# Altium schematic symbol library UZ_D_Encoder.SCHLIB: 95 symbols
Pins are listed as number, name and electrical type; pins without a type are passive.

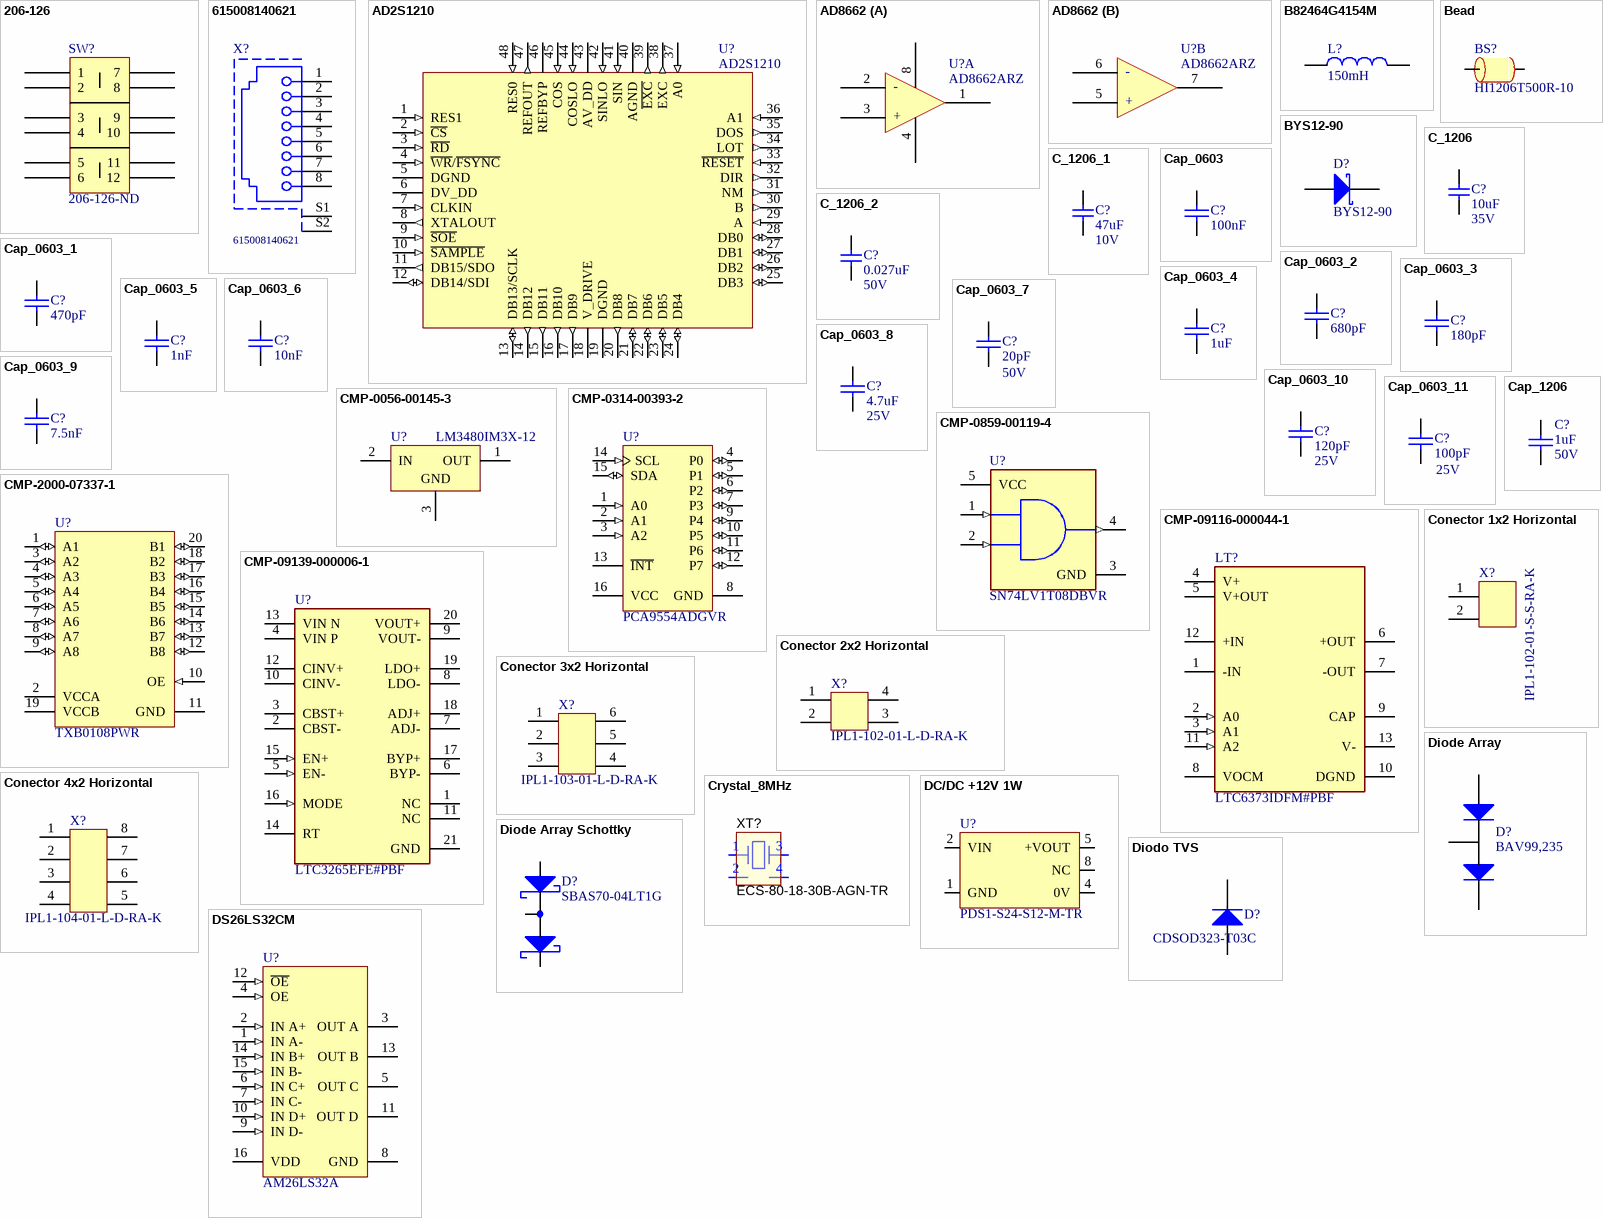
[diagram p0: symbols 206-126 to DS26LS32CM]

## 206-126
designator SW?  Supplier Part Number 1: 206-126-ND  (hidden comment: 206-126)
Switch DIP OFF ON SPDT 6 Raised Slide 0.05A 24VDC PC Pins 2.54mm Thru-Hole Tube; Manufacturer: CTS; Body Material: Plastic; Voltage Rating (DC): 24V; Number of Positions: 6; Current Rating: 50mA; Electrical Life: 10000Cycles; Actuator Type: Slide (Standard); Pitch: 0.1inch; Washable: No; Supplier 1: Digi-Key; Manufacturer Part Number: 206-126; RoHS: Yes; Category: DIP Switches; Pricing 1: 1005=1,10898 (USD); Mount: Through Hole; Contact Plating: Gold; Min Operating Temperature: -55°C; Max Operating Temperature: 85°C; Packaging: Rail/Tube; Termination: PC Pin; Package Quantity: 15; Throw Configuration: SPDT; Series: 206; Max Voltage Rating (DC): 24V; Length: 1.286inch; Terminal Pitch: 2.54mm; Radiation Hardening: No; RoHS Compliant: Yes; ComponentLink1URL: https://datasheet.ciiva.com/8677/206-208-8677008.pdf?src-supplier=Avnet; ComponentLink1Description: https://datasheet.ciiva.com/8677/206-208-8677008.pdf?src-supplier=Avnet; ComponentLink2URL: https://datasheet.ciiva.com/12451/206-208-11732-12451385.pdf?src-supplier=Mouser; ComponentLink2Description: https://datasheet.ciiva.com/12451/206-208-11732-12451385.pdf?src-supplier=Mouser
footprint 206-123
pins: 1, 2, 3, 4, 5, 6, 7, 8, 9, 10, 11, 12

## 615008140621
designator X?
Modular Jack WR-MJ, Tab Up, Shielded, with EMI Panel Finger, Horizontal Entry, THT, 8P8C; Working Voltage: 120VAC; MF: Wurth Elektronik; Compliance: Leadfree/RoHS; Contact Resistance: 20mOhm; Rated Current: 1.5A; Withstanding Voltage: 1000VAC; Port: 1x1; Entrance: Horizontal; Manufacturer URL: http://www.we-online.de; MPN: 615008140621; Mounting Technology: THT; Operating Temperature: -40to85degC; Packaging: Tray; Pin Number: 8P8C; Package Reference: 615008140621; Datasheet URL: https://katalog.we-online.de/em/datasheet/615008140621.pdf; Publisher: WurthElektronik; Supplier Part Number 1: 710-615008140621; Supplier Part Number 2: 732-2742-ND; Supplier 1: Mouser; Supplier 2: Digi-Key
footprint 615008140621 (Modular Jack Horizontal Shielded with EMI Panel Finger 8P8C Tab Up)
pins: 1, 2, 3, 4, 5, 6, 7, 8, S1, S2

## AD2S1210
designator U?
Variable Resolution, 10-Bit to 16-Bit R/D Converter with Reference Oscillator; MPN: AD2S1210WDSTZRL7; MF: Analog Devices; Package: LQFP-48; Value: AD2S1210; Created: 2019_04_20_AGeiger; ComponentLink1Description: Datasheet; ComponentLink1URL: https://www.analog.com/media/en/technical-documentation/data-sheets/AD2S1210.pdf; Supplier 1: Mouser; Supplier Part Number 1: 584-AD2S1210WDSTZR7; Supplier Part Number 2: AD2S1210WDSTZRL7CT-ND; Supplier 2: Digi-Key
footprint LQFP-48_L (QFP, 48-Leads, Body 7x7mm, Pitch 0.5mm, IPC High Density)
footprint LQFP-48_M (QFP, 48-Leads, Body 7x7mm, Pitch 0.5mm, IPC Low Density)
footprint LQFP-48_N (QFP, 48-Leads, Body 7x7mm, Pitch 0.5mm, IPC Medium Density)
pins: 1 RES1 (in), 2 ~{CS} (in), 3 ~{RD} (in), 4 ~{WR}/~{FSYNC} (in), 5 DGND (power), 6 DV_DD (power), 7 CLKIN (in), 8 XTALOUT (out), 9 ~{SOE} (in), 10 ~{SAMPLE} (in), 11 DB15/SDO (out), 12 DB14/SDI (io), 13 DB13/SCLK (io), 14 DB12 (out), 15 DB11 (out), 16 DB10 (out), 17 DB9 (out), 18 V_DRIVE (power), 19 DGND (power), 20 DB8 (out), 21 DB7 (io), 22 DB6 (io), 23 DB5 (io), 24 DB4 (io), 25 DB3 (io), 26 DB2 (io), 27 DB1 (io), 28 DB0 (io), 29 A (in), 30 B (out), 31 NM (out), 32 DIR (out), 33 ~{RESET} (in), 34 LOT (out), 35 DOS (out), 36 A1 (in), 37 A0 (in), 38 EXC (out), 39 ~{EXC} (out), 40 AGND (power), 41 SIN (in), 42 SINLO (in), 43 AV_DD (power), 44 COSLO (in), 45 COS (in), 46 REFBYP, 47 REFOUT (out), 48 RES0 (in)

## AD8662
designator U?, comment AD8662ARZ
IC OPAMP GP 2 CIRCUIT 14SOIC; MF: Analog Devices; MPN: AD8662ARZ; Supplier Part Number 2: AD8662ARZ-ND; Package: SOIC-8; Supplier 1: Mouser; Supplier 2: Digi-Key; Supplier Part Number 1: 584-AD8662ARZ
footprint SOIC8_N (SOIC, 8-Leads, Body 4.9x3.9mm, Pitch 1.27mm, IPC Medium Density)
part A pins: 1 out a, 2 -in a, 3 +in a, 4 v+, 8 v-
part B pins: 5 +in b, 6 -in b, 7 out b
part A text: -; +
part B text: -; +

## B82464G4154M
designator L?, comment 150mH
SMT power Inductor, 150uH, 320m DRC; MPN: B82464G4154M; MF: EPCOS / TDK; Rated Current: 0.85 A; Supplier 1: Mouser; Supplier Part Number 1: 871-B82464G4154M; Value: 150mH; DCR: 320m
footprint SMT_inductor_1050_Performance (SMD Shielded Power Inductor, 2-leads, body 10.3x10.5mm)
pins: 1, 2

## Bead
designator BS?, comment HI1206T500R-10
Ferrite bead 6A; MF: Laird; Supplier Part Number 2: 240-2412-1-ND; MFN: HI1206T500R-10; Supplier 2: Digi-Key; Supplier 1: Mouser; Supplier Part Number 1: 875-HI1206T500R-10; Package: 1206
footprint RES_1206 (RES 1206)
pins: 1, 2

## BYS12-90
designator D?
Schottky Diode; MPN: BYS12-90-E3/TR3; MF: Vishay; Forward Voltage: 750mV; Reverse Voltage: 90V; Rated Current: 1.5A; Package: DO-214AC; Supplier 1: Farnell; Supplier 2: Mouser; Supplier 3: Digi-Key; Supplier Part Number 1: 2889144; Supplier Part Number 2: 625-BYS12-90-E3/TR3; Supplier Part Number 3: BYS12-90-E3/GICT-ND
footprint DIOM4227X23N (Molded Diode, 2-Leads, Body 4,25x2,67mm, IPC Medium Density)
pins: 1 K, 2 A

## C_1206
designator C?, comment 10uF  Voltage: 35V
Capacitor 1206; MPN: GRM319R6YA106KA12D; Tolerance: 10%; MF: Murata Electronics; Dielectric: X5R; Package: 1206; Value: 10uF; Created: 2018_06_25_AGeiger; Supplier 1: Mouser; Supplier Part Number 1: 81-GRM319R6YA106KA2D
footprint C_1206
pins: 1, 2

## C_1206_1
designator C?, comment 47uF  Voltage: 10V
Capacitor 1206; MPN: GRM31CR61A476ME15L; Tolerance: 10%; MF: Murata Electronics; Dielectric: X5R; Package: 1206; Value: 47uF; Created: 2018_06_25_AGeiger; Supplier 1: Mouser; Supplier Part Number 1: 81-GRM31CR61A476ME5L
footprint C_1206
pins: 1, 2

## C_1206_2
designator C?, comment 0.027uF  Voltage: 50V
Capacitor 1206; MPN: GRM3195C1H273JA01D; Tolerance: 5%; MF: Murata; Dielectric: C0G; Package: 1206; Value: 0.027uF; Created: 2018_06_25_AGeiger; Supplier 1: Mouser; Supplier Part Number 1: 81-GRM315C1H273JA01D
footprint C_1206
pins: 1, 2

## Cap_0603
designator C?, comment 100nF
MPN: 885012206071; MF: Würth; Voltage: 25V; Value: 100nF; Supplier 1: Mouser; Supplier 2: *; Supplier Part Number 1: 710-885012206071; Supplier Part Number 2: *
footprint CAPC1608X07N (Chip Capacitor, 2-Leads, Body 1,60x0,80mm, IPC Medium Density)
pins: 1, 2

## Cap_0603_1
designator C?, comment 470pF
MPN: VJ0603A471GXJPW1BC; MF: Vishay; Voltage: 16V; Value: 470pF; Supplier 1: Mouser; Supplier 2: *; Supplier Part Number 1: 77-VJ0603A471GXJPBC; Supplier Part Number 2: *
footprint CAPC1608X07N (Chip Capacitor, 2-Leads, Body 1,60x0,80mm, IPC Medium Density)
pins: 1, 2

## Cap_0603_2
designator C?, comment 680pF
MPN: VJ0603A681GXJCW1BC; MF: Vishay; Voltage: 16V; Value: 680pF; Supplier 1: Mouser; Supplier 2: *; Supplier Part Number 1: 77-VJ0603A681GXJCBC; Supplier Part Number 2: *
footprint CAPC1608X07N (Chip Capacitor, 2-Leads, Body 1,60x0,80mm, IPC Medium Density)
pins: 1, 2

## Cap_0603_3
designator C?, comment 180pF
MPN: VJ0603A681GXJCW1BC; MF: Vishay; Voltage: 16V; Value: 180pF; Supplier 1: Mouser; Supplier 2: *; Supplier Part Number 1: 77-VJ0603A681GXJCBC; Supplier Part Number 2: *
footprint CAPC1608X07N (Chip Capacitor, 2-Leads, Body 1,60x0,80mm, IPC Medium Density)
pins: 1, 2

## Cap_0603_4
designator C?, comment 1uF
MPN: C0603C105K3R; Voltage: 25V; Value: 1uF
footprint CAPC1608X07N (Chip Capacitor, 2-Leads, Body 1,60x0,80mm, IPC Medium Density)
pins: 1, 2

## Cap_0603_5
designator C?, comment 1nF
Voltage: 16V; Value: 1nF; MF: *; MPN: *; Supplier 1: *; Supplier 2: *; Supplier Part Number 1: *; Supplier Part Number 2: *
footprint CAPC1608X07N (Chip Capacitor, 2-Leads, Body 1,60x0,80mm, IPC Medium Density)
pins: 1, 2

## Cap_0603_6
designator C?, comment 10nF
MPN: 885012206065; MF: Würth; Voltage: 25V; Value: 10nF; Supplier 1: Mouser; Supplier 2: *; Supplier Part Number 1: 710-885012206065; Supplier Part Number 2: *
footprint CAPC1608X07N (Chip Capacitor, 2-Leads, Body 1,60x0,80mm, IPC Medium Density)
pins: 1, 2

## Cap_0603_7
designator C?, comment 20pF  Voltage: 50V
Value: 20pF; MF: *; MPN: *; Supplier 1: *; Supplier 2: *; Supplier Part Number 1: *; Supplier Part Number 2: *
footprint CAPC1608X07N (Chip Capacitor, 2-Leads, Body 1,60x0,80mm, IPC Medium Density)
pins: 1, 2

## Cap_0603_8
designator C?, comment 4.7uF  Voltage: 25V
Value: 4.7uF; MF: *; MPN: *; Supplier 1: *; Supplier 2: *; Supplier Part Number 1: *; Supplier Part Number 2: *
footprint CAPC1608X07N (Chip Capacitor, 2-Leads, Body 1,60x0,80mm, IPC Medium Density)
pins: 1, 2

## Cap_0603_9
designator C?, comment 7.5nF
MPN: C0603C752J3GACTU; MF: KEMET; Voltage: 25V; Value: 7.5nF; Supplier 1: Mouser; Supplier 2: *; Supplier Part Number 1: 80-C0603C752J3GACTU; Supplier Part Number 2: *
footprint CAPC1608X07N (Chip Capacitor, 2-Leads, Body 1,60x0,80mm, IPC Medium Density)
pins: 1, 2

## Cap_0603_10
designator C?, comment 120pF  Voltage: 25V
Value: 120pF; MF: *; MPN: *; Supplier 1: *; Supplier 2: *; Supplier Part Number 1: *; Supplier Part Number 2: *
footprint CAPC1608X07N (Chip Capacitor, 2-Leads, Body 1,60x0,80mm, IPC Medium Density)
pins: 1, 2

## Cap_0603_11
designator C?, comment 100pF  Voltage: 25V
Value: 100pF; MF: *; MPN: *; Supplier 1: *; Supplier 2: *; Supplier Part Number 1: *; Supplier Part Number 2: *
footprint CAPC1608X07N (Chip Capacitor, 2-Leads, Body 1,60x0,80mm, IPC Medium Density)
pins: 1, 2

## Cap_1206
designator C?, comment 1uF  Voltage: 50V
Capacitor; Digikey Part-Number: *; Value: 1uF; Manufacturer Part-Number: *
simulation model CAP (Capacitor)
signal-integrity model Cap
footprint RES_1206 (RES 1206)
pins: 1, 2

## CMP-0056-00145-3
designator U?, comment LM3480IM3X-12
100 mA, Quasi Low-Dropout Linear Voltage Regulator, 3-pin SOT-23; Manufacturer: Texas Instruments; CompType: Analog IC; PowerWise: N; PackageTopMarking: L0C*XTT; PackageReference: DBZ0003A; PinCount: 3; RoHS: N; ComponentLink1Description: Datasheet URL; PackageDescription: Molded SOT-23, .115 x .051 x .037in Body, 3 Lead, .075 in Pitch; ComponentLink1URL: http://www.ti.com/general/docs/lit/getliterature.tsp?genericPartNumber=LM3480&fileType=pdf; Manufacturer 1: Texas Instruments; Manufacturer Part Number 1: LM3480IM3X-12
footprint DBZ0003A_L (SOT23, 3-Leads, Body 3.04x1.4mm, Pitch 0.95mm, IPC High Density)
footprint DBZ0003A_N (SOT23, 3-Leads, Body 3.04x1.4mm, Pitch 0.95mm, IPC Medium Density)
footprint DBZ0003A_M (SOT23, 3-Leads, Body 3.04x1.4mm, Pitch 0.95mm, IPC Low Density)
pins: 1 OUT (power), 2 IN (power), 3 GND (power)

## CMP-0314-00393-2
designator U?, comment PCA9554ADGVR
Remote 8-Bit I2C and SMBus I/O Expander with Interrupt Output and Configuration Registers, 8 Outputs, 2.3 to 5.5 V, -40 to 85 degC, 16-pin TVSOP (DGV), Green (RoHS & no Sb/Br); Manufacturer: Texas Instruments; No. of Outputs: 8; Push-Pull I/O Type: Yes; VCC(Max)(V): 5.5; Max Frequency(kHz): 400; fSCLK(Max)(MHz): 0.1, 0.4; VCC(Min)(V): 2.3; I2C Address: 0111 xxx; SubFamily: I2C IO Expander; PackageVersion: revE, Aug-2000; Code_JEDEC: MO-194; ComponentLink1Description: Datasheet; PackageDescription: 16-Pin Thin Shrink Small Outline Package 0.4 mm Pitch; ComponentLink1URL: http://www.ti.com/general/docs/lit/getliterature.tsp?genericPartNumber=PCA9554A&fileType=pdf; Configuration Registers: Yes; PartNumber: PCA9554ADGVR; ComponentLink2Description: Package Specification; PackageReference: DGV0016A; Mounting Technology: Surface Mount; Vcc range(V): 2.3 to 5.5; DatasheetVersion: SCPS127D; # of I/Os: 8; 5V Tolerant I/O: Yes; ComponentLink2URL: http://www.ti.com/litv/pdf/msso002e; Interrupt Output: Yes; Eco-Plan: Green (RoHS & no Sb/Br); Manufacturer 1: Texas Instruments; Manufacturer Part Number 1: PCA9554ADGVR
footprint DGV0016A_L (SOP, 16-Leads, Body 4.5x3.7mm, Pitch 0.4mm, IPC High Density)
footprint DGV0016A_N (SOP, 16-Leads, Body 4.5x3.7mm, Pitch 0.4mm, IPC Medium Density)
footprint DGV0016A_M (SOP, 16-Leads, Body 4.5x3.7mm, Pitch 0.4mm, IPC Low Density)
pins: 1 A0 (in) "Address input. Connect directly to VCC or ground.", 2 A1 (in) "Address input. Connect directly to VCC or ground.", 3 A2 (in) "Address input. Connect directly to VCC or ground.", 4 P0 (io) "P-port input/output. Push-pull design structure.", 5 P1 (io) "P-port input/output. Push-pull design structure.", 6 P2 (io) "P-port input/output. Push-pull design structure.", 7 P3 (io) "P-port input/output. Push-pull design structure.", 8 GND (power) "Ground", 9 P4 (io) "P-port input/output. Push-pull design structure.", 10 P5 (io) "P-port input/output. Push-pull design structure.", 11 P6 (io) "P-port input/output. Push-pull design structure.", 12 P7 (io) "P-port input/output. Push-pull design structure.", 13 ~{INT} (oc) "Interrupt output. Connect to VCC through a pullup resistor.", 14 SCL (in) "Serial clock bus. Connect to VCC through a pullup resistor.", 15 SDA (io) "Serial data bus. Connect to VCC through a pullup resistor.", 16 VCC (power) "Supply voltage"

## CMP-0859-00119-4
designator U?, comment SN74LV1T08DBVR
IC GATE AND 1CH 2-INP SOT23-5; Manufacturer 1: Texas Instruments; Quiescent Current: 1uA; Logic Function: AND GATE; Number of Inputs: 2; Number of Circuits: 1; Min Supply Voltage: 1.6V; High Level Output Current: -8mA; Max Supply Voltage: 5.5V; Low Level Output Current: 8mA; Propagation Delay: 7ns; Packaging: Tape and Reel; Number of Pins: 5; Min Operating Temperature: -40°C; Radiation Hardening: No; Package Quantity: 3000; Weight: 0.000557oz; Height: 1.45mm; RoHS Compliant: Yes; Length: 3.05mm; Number of Bits: 1; Width: 1.75mm; Number of Gates: 1; Max Operating Temperature: 125°C; Mount: Surface Mount; Case/Package: SOT-23-5; Lead Free: Lead Free; Number of Input Lines: 2; Manufacturer Part Number 1: SN74LV1T08DBVR
footprint FP-DBV0005A-IPC_B
footprint FP-DBV0005A-IPC_A
footprint FP-DBV0005A-IPC_C
footprint FP-DBV0005A-MFG
pins: 1 A (in), 2 B (in), 3 GND (power), 4 Y (out), 5 VCC (power)

## CMP-2000-07337-1
designator U?, comment TXB0108PWR
TXB0108 8-Bit Bidirectional Voltage-Level Translator with Auto-Direction Sensing and / +/- 15-kV ESD Protection, 1.2 to 3.6 V, -40 to 85 degC, 20-Pin TSSOP (PW), Green (RoHS & no Sb/Br), Tape and Reel; Manufacturer: Texas Instruments; Propagation Delay (Max): 4ns; Logic Function: Translator,Bidirectional; Input Type: Logic; Package Version: 4040064-5/G, 02/2011; Voltage - Supply: 1.2V~3.6V,1.65V~5.5V; Data Rate: 100Mbps; Other Names: 296-21527-6; Number of Channels: 8; Differential - Input: Output:No/No; Number of Outputs/Channel: 1; Product Training Modules: VoltageLevelTranslation; Dynamic Catalog: TXBSeries; Package Reference: PW20; Package Description: 20-Pin Small Outline Package Integrated Circuit, Body 6.5 x 4.4 mm, Pitch 0.65 mm; Category: IntegratedCircuits(ICs); Datasheet URL: http://www.ti.com/general/docs/lit/getliterature.tsp?genericPartNumber=TXB0108&fileType=pdf; Package / Case: 20-TSSOP(0.173",4.40mmWidth); Family: Logic-Translators; Standard Package: 1; Series: -; Manufacturer URL: http://www.ti.com/; Number of Bits: 8; Package URL: http://www.ti.com/litv/pdf/mpds362; Output Type: Logic; Datasheet Version: Rev. F, 12/2014; Packaging: Digi-Reel®; Operating Temperature: -40°C~85°C; Supplier Device Package: 20-TSSOP; Mounting Technology: SurfaceMount; Manufacturer 1: Texas Instruments; Manufacturer Part Number 1: TXB0108PWR
footprint PW0020A_L (SOP, 20-Leads, Body 6.6x4.5mm, Pitch 0.65mm, IPC High Density)
footprint PW0020A_M (SOP, 20-Leads, Body 6.6x4.5mm, Pitch 0.65mm, IPC Low Density)
footprint PW0020A_N (SOP, 20-Leads, Body 6.6x4.5mm, Pitch 0.65mm, IPC Medium Density)
pins: 1 A1 (io) "Input/output 1. Referenced to VCCA.", 2 VCCA (power) "A-port supply voltage. 1.1 V =< VCCA =< 3.6 V, VCCA =< VCCB.", 3 A2 (io) "Input/output 2. Referenced to VCCA.", 4 A3 (io) "Input/output 3. Referenced to VCCA.", 5 A4 (io) "Input/output 4. Referenced to VCCA.", 6 A5 (io) "Input/output 5. Referenced to VCCA.", 7 A6 (io) "Input/output 6. Referenced to VCCA.", 8 A7 (io) "Input/output 7. Referenced to VCCA.", 9 A8 (io) "Input/output 8. Referenced to VCCA.", 10 OE (in) "Output enable. Pull OE low to place all outputs in 3-state mode. Referenced to VCCA.", 11 GND (power) "Ground", 12 B8 (io) "Input/output 8. Referenced to VCCB.", 13 B7 (io) "Input/output 7. Referenced to VCCB.", 14 B6 (io) "Input/output 6. Referenced to VCCB.", 15 B5 (io) "Input/output 5. Referenced to VCCB.", 16 B4 (io) "Input/output 4. Referenced to VCCB.", 17 B3 (io) "Input/output 3. Referenced to VCCB.", 18 B2 (io) "Input/output 2. Referenced to VCCB.", 19 VCCB (power) "B-port supply voltage. 1.65 V =< VCCB =< 5.5 V.", 20 B1 (io) "Input/output 1. Referenced to VCCB."

## CMP-09116-000044-1
designator LT?, comment LTC6373IDFM#PBF
INST Amp Single ±18V 12-Pin DFN EP Tube; Manufacturer 1: Analog Devices; RoHS Compliant: Yes; Manufacturer Part Number 1: LTC6373IDFM#PBF
footprint FP-LTC6373IDFM#PBF-MFG
footprint FP-LTC6373IDFM#PBF-IPC_C
footprint FP-LTC6373IDFM#PBF-IPC_B
footprint FP-LTC6373IDFM#PBF-IPC_A
pins: 1 -IN (hiz), 2 A0 (in), 3 A1 (in), 4 V+ (power), 5 V+OUT (power), 6 +OUT, 7 -OUT, 8 VOCM, 9 CAP, 10 DGND (power), 11 A2 (in), 12 +IN (hiz), 13 V- (power)

## CMP-09139-000006-1
designator U?, comment LTC3265EFE#PBF
IC REG CHARG PUMP INV DL 20TSSOP; Manufacturer: Analog Devices Inc; Manufacturer 1: Analog Devices / Linear Technology; Switching Topology: Buck-Boost; Number Of Outputs: 2; Max Junction Temp: +150°C; Output Type: AdjustableProgrammable; Min Supply Voltage: 4.5V; Switching Frequency: 50-500kHz; Max Supply Voltage: 32V; Standoff Height: 0.05mm; Output Voltage: 1.2-32V; Nominal Supply Current: 3-3000uA; Ipc Land Pattern Name: SOP65P640X120-20; Mouser Description: Charge Pump INV/STPUP Automotive 20-Pin TSSOP EP Tube; Manufacturer Part Number: LTC3265EFE#PBF; ComponentLink2Description: Datasheet; Device Class L2: Power Management ICs; Octopart: https://octopart.com/ltc3265efe%23pbf-analog+devices-88944569; Height: 1.2mm; RoHS: TRUE; Category: IC; Digikey Description: IC REG CHARG PUMP INV DL 20TSSOP; ComponentLink2URL: https://www.analog.com/media/en/technical-documentation/data-sheets/3265fa.pdf; Package: FE-20-05-08-1663; Device Class L1: Integrated Circuits (ICs); Temperature Range High: +125°C; Temperature: -40°C to +125°C; Device Class L3: Voltage Regulators - Switching; Automotive: No; Lead Free: Yes; Temperature Range Low: -40°C; Manufacturer Part Number 1: LTC3265EFE#PBF
footprint FP-FE-20-05-08-1663-MFG
footprint FP-FE-20-05-08-1663-IPC_C
footprint FP-FE-20-05-08-1663-IPC_B
footprint FP-FE-20-05-08-1663-IPC_A
pins: 1 NC, 2 CBST-, 3 CBST+, 4 VIN P (power), 5 EN- (in), 6 BYP-, 7 ADJ-, 8 LDO-, 9 VOUT- (power), 10 CINV-, 11 NC, 12 CINV+, 13 VIN N (power), 14 RT, 15 EN+ (in), 16 MODE (in), 17 BYP+, 18 ADJ+, 19 LDO+, 20 VOUT+ (power), 21 GND (power)

## Conector 1x2 Horizontal
designator X?, comment IPL1-102-01-S-S-RA-K
CONN HEADER R/A 2POS 2.54MM Through Hole; MF: Samtec; Supplier Part Number 2: SAM12667-ND; MPN: IPL1-102-01-S-S-RA-K; Supplier Part Number 1: 200-IPL110201SSRAK; Supplier 1: Mouser; Supplier 2: Digi-Key
footprint Conector 1x2 TH Horizontal (Pitch 2.54mm P/N: IPL1-102-01-S-S-RA-K)
pins: 1, 2

## Conector 2x2 Horizontal
designator X?, comment IPL1-102-01-L-D-RA-K
CONN HEADER R/A 4 POS 2.54MM Through Hole; MF: Samtec; Supplier Part Number 2: SAM8823-ND; MPN: IPL1-102-01-L-D-RA-K; Supplier Part Number 1: 200-IPL110201LDRAK; Supplier 1: Mouser; Supplier 2: Digi-Key
footprint Conector 2x2 TH Horizontal (Pitch 2.54mm P/N: IPL1-102-01-L-D-RA-K)
pins: 1, 2, 3, 4

## Conector 3x2 Horizontal
designator X?, comment IPL1-103-01-L-D-RA-K
CONN HEADER R/A 6 POS 2.54MM Through Hole; MF: Samtec; Supplier Part Number 2: SAM9096-ND; MPN: IPL1-103-01-L-D-RA-K; Supplier Part Number 1: 200-IPL110301LDRAK; Supplier 1: Mouser; Supplier 2: Digi-Key
footprint Conector 3x2 TH Horizontal (Pitch 2.54mm P/N: IPL1-103-01-L-D-RA-K)
pins: 1, 2, 3, 4, 5, 6

## Conector 4x2 Horizontal
designator X?, comment IPL1-104-01-L-D-RA-K
CONN HEADER R/A 8POS 2.54MM Through Hole; MF: Samtec; Supplier Part Number 2: SAM9596-ND; MPN: IPL1-104-01-L-D-RA-K; Supplier Part Number 1: 200-IPL110401LDRAK; Supplier 1: Mouser; Supplier 2: Digi-Key
footprint Conector 4x2 TH Horizontal (Pitch 2.54mm P/N: IPL1-104-01-L-D-RA-K)
pins: 1, 2, 3, 4, 5, 6, 7, 8

## Crystal_8MHz
designator XT?, comment ECS-80-18-30B-AGN-TR
CRYSTAL 8MHZ 18PF SMD; MF: ECS; Supplier Part Number 2: XC2709CT-ND; MPN: ECS-80-18-30B-AGN-TR; Supplier Part Number 1: 520-80-18-30B-AGNT; Supplier 1: Mouser; Package: 4-SMD; Supplier 2: Digi-Key
footprint CRYSTALOSC
pins: 1 IN, 2 GND, 3 OUT, 4 GND

## DC/DC +12V 1W
designator U?, comment PDS1-S24-S12-M-TR
DC DC CONVERTER 12V 1W; MF: CUI; MPN: PDS1-S24-S12-M-TR; Supplier Part Number 2: 102-3406-1-ND; Package: 5-SMD; Supplier 1: Mouser; Supplier 2: Digi-Key; Supplier Part Number 1: 490-PDS1S24S12MTR
footprint DC/DC 24V-->12V 1W Aislado (CUI Inc. P/N: PDS1-S24-S12-M-TR)
pins: 1 GND, 2 VIN, 4 0V, 5 +VOUT, 8 NC, 15 NC hidden, 16 NC hidden, 17 NC hidden, 26 NC hidden, 27 NC hidden

## Diode Array
designator D?, comment BAV99,235
DIODE ARRAY GP 100V 215MA SOT23; MF: Nexperia; Supplier Part Number 2: 1727-4311-1-ND; MPN: BAV99,235; Supplier 1: Mouser; Supplier 2: Digi-Key; Package: SOT-23-3; Supplier Part Number 1: 771-BAV99235
footprint SOT-23 (SOT23, 3-Leads, Body 2.9x1.3mm, Pitch 0.95mm, Lead Span 2.5mm, IPC Medium Density)
pins: 1, 2, 3

## Diode Array Schottky
designator D?, comment SBAS70-04LT1G
DIODE SCHOTTKY 70V DUAL SOT23; MF: ON Semiconductor; Supplier Part Number 2: SBAS70-04LT1GOSCT-ND; MPN: SBAS70-04LT1G; Supplier Part Number 1: 863-SBAS70-04LT1G; Package: SOT-23-3; Supplier 1: Mouser; Supplier 2: Digi-Key
footprint SOT-23 (SOT23, 3-Leads, Body 2.9x1.3mm, Pitch 0.95mm, Lead Span 2.5mm, IPC Medium Density)
pins: 1, 2, 3

## Diodo TVS
designator D?, comment CDSOD323-T03C
TVS DIODE 3.3V 19V SOD323; MF: Bourns; Supplier Part Number 2: CDSOD323-T03CCT-ND; MPN: CDSOD323-T03C; Supplier Part Number 1: 652-CDSOD323-T03C; Package: SOD-323-2; Supplier 2: Digi-Key; Supplier 1: Mouser
footprint SOD-323
pins: 1 K, 2 A

## DS26LS32CM
designator U?, comment AM26LS32A
Quad Differential Line Receiver, 16-pin Narrow SOIC; PartNumber: AM26LS32AIDR; Manufacturer: TI; CompType: Interface IC; Published: 4-Dec-2008; Supplier 1: Mouser; Supplier Part Number 1: 595-AM26LS32AIDR; PinCount: 16; ComponentLink3Description: M16A Package Page; ComponentLink3URL: http://www.national.com/packaging/folders/m16a.html
footprint M16A_N (SOIC, 16-Leads, Body 9.9x3.9mm, Pitch 1.27mm, IPC Medium Density)
footprint M16A_L (SOIC, 16-Leads, Body 9.9x3.9mm, Pitch 1.27mm, IPC High Density)
footprint M16A_M (SOIC, 16-Leads, Body 9.9x3.9mm, Pitch 1.27mm, IPC Low Density)
pins: 1 IN A- (in), 2 IN A+ (in), 3 OUT A (hiz), 4 OE (in), 5 OUT C (hiz), 6 IN C+ (in), 7 IN C- (in), 8 GND (power), 9 IN D- (in), 10 IN D+ (in), 11 OUT D (hiz), 12 ~{OE} (in), 13 OUT B (hiz), 14 IN B+ (in), 15 IN B- (in), 16 VDD (power)

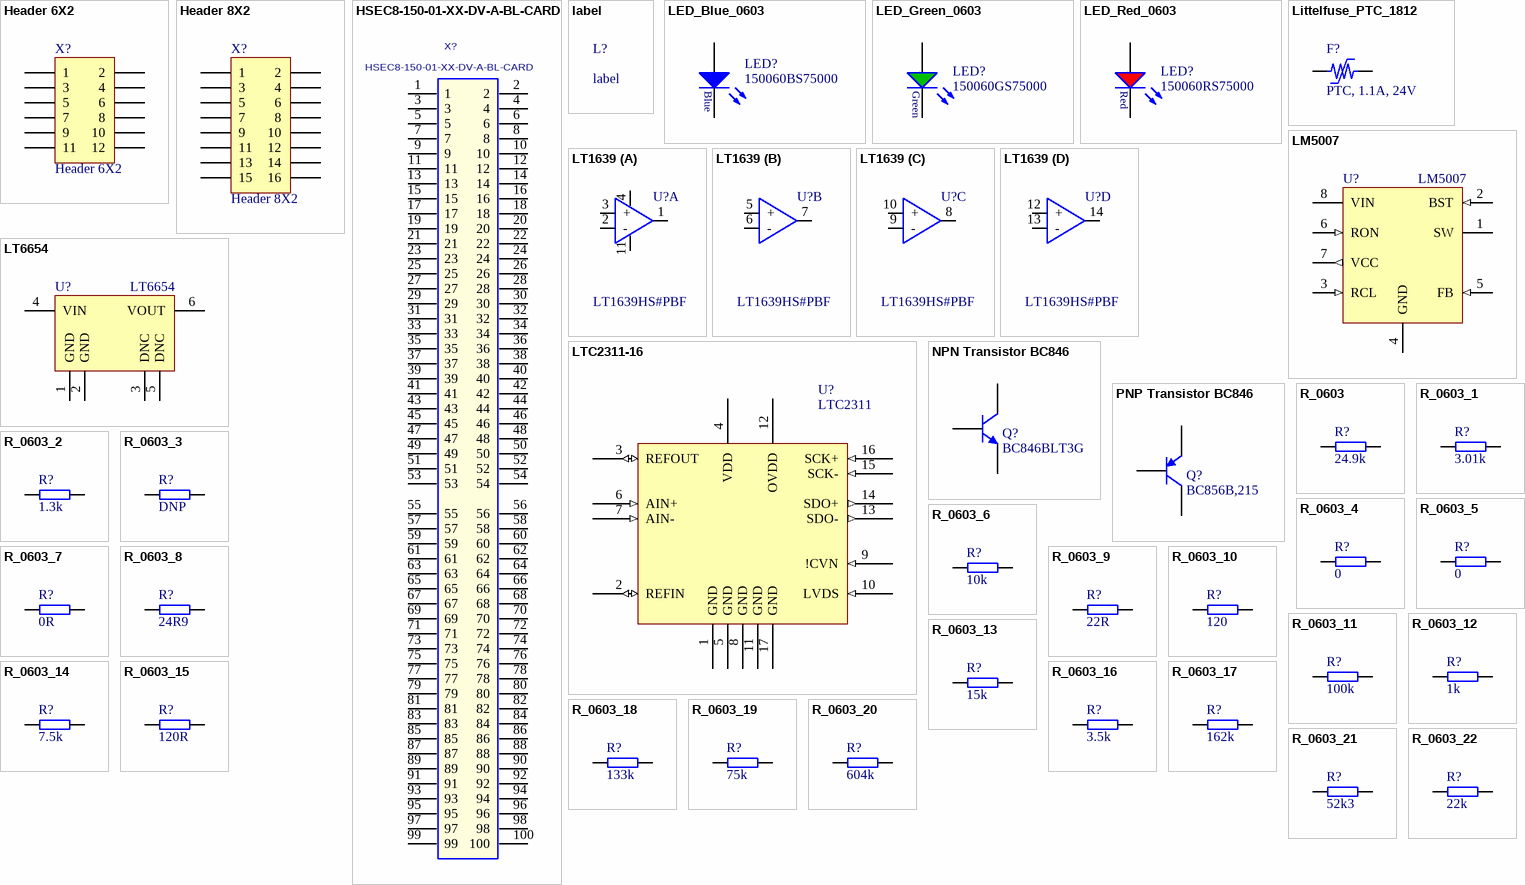
[diagram p1: symbols Header 6X2 to R_0603_22]

## Header 6X2
designator X?
Header, 6-Pin, Dual row; LatestRevisionDate: 17-Jul-2002; LatestRevisionNote: Re-released for DXP Platform.; Publisher: Altium Limited
footprint HDR2X6 (Connector; Header; 6x2 Position)
signal-integrity model Connector
pins: 1, 2, 3, 4, 5, 6, 7, 8, 9, 10, 11, 12

## Header 8X2
designator X?
Header, 8-Pin, Dual row; LatestRevisionDate: 17-Jul-2002; LatestRevisionNote: Re-released for DXP Platform.; Publisher: Altium Limited
footprint HDR2X8 (Connector; Header; 8x2 Position)
signal-integrity model Connector
pins: 1, 2, 3, 4, 5, 6, 7, 8, 9, 10, 11, 12, 13, 14, 15, 16

## HSEC8-150-01-XX-DV-A-BL-CARD
designator X?  (no BOM)
Mating Card Layout for HSEC8-150-01-XX-DV-A-BL; Manufacturer: SAMTEC; Created: 2018_04_23_AGeiger; Value: HSEC8-150-01-XX-DV-A-BL-CARD
footprint HSEC8-150-01-XX-DV-A-BL-CARD
pins: 1, 2, 3, 4, 5, 6, 7, 8, 9, 10, 11, 12, 13, 14, 15, 16, 17, 18, 19, 20, 21, 22, 23, 24, 25, 26, 27, 28, 29, 30, 31, 32, 33, 34, 35, 36, 37, 38, 39, 40, 41, 42, 43, 44, 45, 46, 47, 48, 49, 50, 51, 52, 53, 54, 55, 56, 57, 58, 59, 60, 61, 62, 63, 64, 65, 66, 67, 68, 69, 70, 71, 72, 73, 74, 75, 76, 77, 78, 79, 80, 81, 82, 83, 84, 85, 86, 87, 88, 89, 90, 91, 92, 93, 94, 95, 96, 97, 98, 99, 100

## label
designator L?
footprint revisioninfo

## LED_Blue_0603
designator LED?, comment 150060BS75000
WL-SMCW SMD Mono-color Chip LED Waterclear, size 0603, Blue, 3.2 V, 140°; Forward Voltage: 3.2 V; Luminous Intensity: 145 mcd; Peak Wavelength: 465 nm; Dominant Wavelength: 470 nm; MF: Wuerth Elektronik; Published Date: Sep. 2017; ComponentLink1Description: Manufacturer; ComponentLink1URL: http://www.we-online.de; ComponentLink2Description: Datasheet; ComponentLink2URL: http://katalog.we-online.com/led/datasheet/150060BS75000.pdf; MPN: 150060BS75000; Size: 0603; Viewing Angle: 140°; Emitting Color: Blue; Value: 150060BS75000; Package: 0603; Created: 2018_09_06_AGeiger; Supplier 1: Farnell; Supplier Part Number 1: 2322069; Supplier 2: Mouser; Supplier Part Number 2: 710-150060BS75000; Supplier 3: Digi-Key; Supplier Part Number 3: 732-4966-1-ND
footprint WL-SMCW_0603 (SMD Mono-color Chip LED, body 1.6x0.8mm)
pins: 1 K, 2 A

## LED_Green_0603
designator LED?, comment 150060GS75000
WL-SMCW SMD Mono-color Chip LED Waterclear, size 0603, Green, 3.2 V, 140°; Forward Voltage: 3.2 V; Luminous Intensity: 430 mcd; Peak Wavelength: 515 nm; Dominant Wavelength: 520 nm; MF: Wuerth Elektronik; Published Date: Sep. 2017; ComponentLink1Description: Manufacturer; ComponentLink1URL: http://www.we-online.de; ComponentLink2Description: Datasheet; ComponentLink2URL: http://katalog.we-online.com/led/datasheet/150060GS75000.pdf; MPN: 150060GS75000; Size: 0603; Viewing Angle: 140°; Emitting Color: Green; Value: 150060GS75000; Package: 0603; Created: 2018_09_06_AGeiger; Supplier 1: Farnell; Supplier Part Number 1: 2322070; Supplier 2: Mouser; Supplier Part Number 2: 710-150060GS75000; Supplier 3: Digi-Key; Supplier Part Number 3: 732-4971-1-ND
footprint WL-SMCW_0603 (SMD Mono-color Chip LED, body 1.6x0.8mm)
pins: 1 K, 2 A

## LED_Red_0603
designator LED?, comment 150060RS75000
WL-SMCW SMD Mono-color Chip LED Waterclear, size 0603, Red, 2 V, 140°; Forward Voltage: 2 V; Luminous Intensity: 250 mcd; Peak Wavelength: 630 nm; Dominant Wavelength: 625 nm; MF: Wuerth Elektronik; Published Date: Sep. 2017; ComponentLink1Description: Manufacturer; ComponentLink1URL: http://www.we-online.de; ComponentLink2Description: Datasheet; ComponentLink2URL: http://katalog.we-online.com/led/datasheet/150060RS75000.pdf; MPN: 150060RS75000; Size: 0603; Viewing Angle: 140°; Emitting Color: Red; Value: 150060RS75000; Package: 0603; Created: 2018_09_06_AGeiger; Supplier 1: Farnell; Supplier Part Number 1: 2322071; Supplier 2: Mouser; Supplier Part Number 2: 710-150060RS75000; Supplier 3: Digi-Key; Supplier Part Number 3: 732-4978-1-ND
footprint WL-SMCW_0603 (SMD Mono-color Chip LED, body 1.6x0.8mm)
pins: 1 K, 2 A

## Littelfuse_PTC_1812
designator F?, comment PTC, 1.1A, 24V
Resettable PTC Polyfuse SMD, 1812, automotive; MPN: miniASMDC110F/24; MF: Littelfuse; Trip Current: 2.2A; Resistance: 0.18Ohm; Created: 2019_02_10_AGeiger; Package: 1812; ComponentLink1URL: https://www.littelfuse.com/~/media/electronics/datasheets/resettable_ptcs/littelfuse_ptc_surface_mount_catalog_datasheet.pdf.pdf; ComponentLink1Description: Datasheet; Value: PTC, 1.1A, 24V; Voltage: 24V; Hold Current: 1.1A
footprint 1812_PTC_Polyfuse_Littelfuse (Chip Fuse, 2-Leads, Body 4.6x3.24mm)
pins: 1, 2

## LM5007
designator U?
Buck Converter, 9-75Vin, 2.5-73Vout; MPN: LM5007MM/NOPB; MF: Texas Instruments; Supplier 1: Farnell; Supplier 2: Mouser; Supplier 3: Digi-Key; Supplier Part Number 1: 9779345; Supplier Part Number 2: 926-LM5007MM/NOPB; Supplier Part Number 3: LM5007MM/NOPBCT-ND; Package: VSSOP-8
footprint TSOP65P490X110-8N (TSOP, 8-Leads, Body 3,00x3,00mm, Pitch 0,65mm, IPC Medium Density)
pins: 1 SW (power), 2 BST (in), 3 RCL (in), 4 GND (power), 5 FB (in), 6 RON (in), 7 VCC (out), 8 VIN (power)

## LT1639
designator U?, comment LT1639HS#PBF
IC OPAMP GP 4 CIRCUIT 14SO; MF: Analog Devices; Supplier Part Number 2: LT1639HS#PBF-ND; MPN: LT1639HS#PBF; Supplier Part Number 1: 584-LT1639HS#PBF; Package: SO-14; Supplier 1: Mouser; Supplier 2: Digikey
footprint SOIC-14 (SOIC, 14-Leads, Body 8.7x3.9mm, Pitch 1.27mm, IPC Medium Density)
part A pins: 1, 2 -, 3 +, 4 V+, 11 V-
part B pins: 5 +, 6 -, 7
part C pins: 8, 9 -, 10 +
part D pins: 12 +, 13 -, 14

## LT6654
designator U?
MPN: LT6654BIS6-5#TRMPBF; MF: Analog Devices; Package: TSOT-23-6; Supplier 1: Farnell; Supplier 2: Mouser; Supplier 3: Digi-Key; Supplier Part Number 1: 2761960; Supplier Part Number 2: 584-6654BIS65TRMPBF; Supplier Part Number 3: LT6654BIS6-5#TRMPBF-ND
footprint SOT95P280X100-6N (SOT23, 6-Leads, Body 2,90x2,80mm, Pitch 0,95mm, IPC Medium Density)
pins: 1 GND (power), 2 GND (power), 3 DNC, 4 VIN (power), 5 DNC, 6 VOUT (power)

## LTC2311-16
designator U?, comment LTC2311
16 Bit SAR ADC, 5MSps; MPN: LTC2311CMSE-16#PBF; MF: Analog Devices; Package: MSOP-16; Supplier 1: Mouser; Supplier 2: Digi-Key; Supplier Part Number 1: 584-C2311CMSE-16PBF; Supplier Part Number 2: LTC2311CMSE-16#PBF-ND
footprint LTC2311-16
pins: 1 GND (power), 2 REFIN (io), 3 REFOUT (io), 4 VDD (power), 5 GND (power), 6 AIN+ (in), 7 AIN- (in), 8 GND (power), 9 !CVN (in), 10 LVDS (in), 11 GND (power), 12 OVDD (power), 13 SDO- (out), 14 SDO+ (out), 15 SCK- (in), 16 SCK+ (in), 17 GND (power)

## NPN Transistor BC846
designator Q?, comment BC846BLT3G
NPN Bipolar Transistor; MF: ON Semiconductor; Supplier Part Number 2: BC846BLT3GOSCT-ND; MPN: BC846BLT3G; Supplier 1: Mouser; Supplier 2: Digi-Key; Supplier Part Number 1: 863-BC846BLT3G; Package: SOT-23-3
footprint SOT-23 (SOT23, 3-Leads, Body 2.9x1.3mm, Pitch 0.95mm, Lead Span 2.5mm, IPC Medium Density)
pins: 1 B, 2 E, 3 C

## PNP Transistor BC846
designator Q?, comment BC856B,215
PNP Bipolar Transistor; MF: Nexperia; Supplier Part Number 2: 1727-2925-1-ND; MPN: BC856B,215; Supplier Part Number 1: 771-BC856B-T/R; Supplier 1: Mouser; Supplier 2: Digi-Key; Package: SOT-23-3
footprint SOT-23 (SOT23, 3-Leads, Body 2.9x1.3mm, Pitch 0.95mm, Lead Span 2.5mm, IPC Medium Density)
pins: 1 B, 2 E, 3 C

## R_0603
designator R?, comment 24.9k
MPN: CRCW060324K9FKEAC; MF: Vishay / Dale; Value: 24.9k; Supplier 1: Mouser; Supplier Part Number 1: 71-CRCW060324K9FKEAC; Package: 0603
footprint RESC1608X06N (Chip Resistor, 2-Leads, Body 1,60x0,80mm, IPC Medium Density)
pins: 1, 2

## R_0603_1
designator R?, comment 3.01k
MPN: CRCW060324K9FKEAC; MF: Vishay / Dale; Value: 3.01k; Supplier 1: Mouser; Supplier Part Number 1: 71-CRCW060324K9FKEAC; Package: 0603
footprint RESC1608X06N (Chip Resistor, 2-Leads, Body 1,60x0,80mm, IPC Medium Density)
pins: 1, 2

## R_0603_2
designator R?, comment 1.3k
MPN: CRCW060324K9FKEAC; MF: Vishay / Dale; Value: 1.3k; Supplier 1: Mouser; Supplier Part Number 1: 71-CRCW060324K9FKEAC; Package: 0603
footprint RESC1608X06N (Chip Resistor, 2-Leads, Body 1,60x0,80mm, IPC Medium Density)
pins: 1, 2

## R_0603_3
designator R?, comment DNP
MPN: CRCW060324K9FKEAC; MF: Vishay / Dale; Value: DNP; Supplier 1: Mouser; Supplier Part Number 1: 71-CRCW060324K9FKEAC; Package: 0603
footprint RESC1608X06N (Chip Resistor, 2-Leads, Body 1,60x0,80mm, IPC Medium Density)
pins: 1, 2

## R_0603_4
designator R?, comment 0
MPN: CRCW060324K9FKEAC; MF: Vishay / Dale; Value: 0; Supplier 1: Mouser; Supplier Part Number 1: 71-CRCW060324K9FKEAC; Package: 0603
footprint RESC1608X06N (Chip Resistor, 2-Leads, Body 1,60x0,80mm, IPC Medium Density)
pins: 1, 2

## R_0603_5
designator R?, comment 0
MPN: CRCW060324K9FKEAC; Value: DNP; MF: Vishay / Dale; Supplier 1: Mouser; Supplier Part Number 1: 71-CRCW060324K9FKEAC; Package: 0603
footprint RESC1608X06N (Chip Resistor, 2-Leads, Body 1,60x0,80mm, IPC Medium Density)
pins: 1, 2

## R_0603_6
designator R?, comment 10k
MPN: CRCW06030000Z0EAC; MF: Vishay; Value: 10k; Supplier 1: Mouser; Supplier Part Number 1: 71-CRCW06030000Z0EAC
footprint RESC1608X06N (Chip Resistor, 2-Leads, Body 1,60x0,80mm, IPC Medium Density)
pins: 1, 2

## R_0603_7
designator R?, comment 0R
MPN: CRCW06030000Z0EAC; MF: Vishay; Value: 0R; Supplier 1: Mouser; Supplier Part Number 1: 71-CRCW06030000Z0EAC
footprint RESC1608X06N (Chip Resistor, 2-Leads, Body 1,60x0,80mm, IPC Medium Density)
pins: 1, 2

## R_0603_8
designator R?, comment 24R9
MPN: RC0603FR-0724R9L; MF: Yageo; Value: 24R9; Supplier 1: Mouser; Supplier Part Number 1: 603-RC0603FR-0724R9L
footprint RESC1608X06N (Chip Resistor, 2-Leads, Body 1,60x0,80mm, IPC Medium Density)
pins: 1, 2

## R_0603_9
designator R?, comment 22R
Value: 22R; MF: *; MPN: *; Supplier 1: *; Supplier Part Number 1: *
footprint RESC1608X06N (Chip Resistor, 2-Leads, Body 1,60x0,80mm, IPC Medium Density)
pins: 1, 2

## R_0603_10
designator R?, comment 120
Value: 120; MF: *; MPN: *; Supplier 1: *; Supplier Part Number 1: *
footprint RESC1608X06N (Chip Resistor, 2-Leads, Body 1,60x0,80mm, IPC Medium Density)
pins: 1, 2

## R_0603_11
designator R?, comment 100k
MPN: RC0603FR-071KL; MF: Yageo; Value: 100k; Supplier 1: Mouser; Supplier Part Number 1: 603-RC0603FR-071KL
footprint RESC1608X06N (Chip Resistor, 2-Leads, Body 1,60x0,80mm, IPC Medium Density)
pins: 1, 2

## R_0603_12
designator R?, comment 1k
MPN: RC0603FR-071KL; MF: Yageo; Value: 1k; Supplier 1: Mouser; Supplier Part Number 1: 603-RC0603FR-071KL
footprint RESC1608X06N (Chip Resistor, 2-Leads, Body 1,60x0,80mm, IPC Medium Density)
pins: 1, 2

## R_0603_13
designator R?, comment 15k
MPN: CRCW06030000Z0EAC; MF: Vishay; Value: 15k; Supplier 1: Mouser; Supplier Part Number 1: 71-CRCW06030000Z0EAC
footprint RESC1608X06N (Chip Resistor, 2-Leads, Body 1,60x0,80mm, IPC Medium Density)
pins: 1, 2

## R_0603_14
designator R?, comment 7.5k
Value: 7.5k; Supplier 1: Mouser
footprint RESC1608X06N (Chip Resistor, 2-Leads, Body 1,60x0,80mm, IPC Medium Density)
pins: 1, 2

## R_0603_15
designator R?, comment 120R
Value: 120R; MF: *; MPN: *; Supplier 1: *; Supplier Part Number 1: *
footprint RESC1608X06N (Chip Resistor, 2-Leads, Body 1,60x0,80mm, IPC Medium Density)
pins: 1, 2

## R_0603_16
designator R?, comment 3.5k
Value: 3.5k; MF: *; MPN: *; Supplier 1: *; Supplier Part Number 1: *
footprint RESC1608X06N (Chip Resistor, 2-Leads, Body 1,60x0,80mm, IPC Medium Density)
pins: 1, 2

## R_0603_17
designator R?, comment 162k
MPN: CRCW0603162KFKEA; MF: Vishay; Value: 162k; Supplier 1: Mouser; Supplier Part Number 1: 71-CRCW0603-162K-E3
footprint RESC1608X06N (Chip Resistor, 2-Leads, Body 1,60x0,80mm, IPC Medium Density)
pins: 1, 2

## R_0603_18
designator R?, comment 133k
MPN: RC0603FR-07133KL; MF: Yageo; Value: 133k; Supplier 1: Mouser; Supplier Part Number 1: 603-RC0603FR-07133KL
footprint RESC1608X06N (Chip Resistor, 2-Leads, Body 1,60x0,80mm, IPC Medium Density)
pins: 1, 2

## R_0603_19
designator R?, comment 75k
MPN: RC0603FR-0775KL; MF: Yageo; Value: 75k; Supplier 1: Mouser; Supplier Part Number 1: 603-RC0603FR-0775KL
footprint RESC1608X06N (Chip Resistor, 2-Leads, Body 1,60x0,80mm, IPC Medium Density)
pins: 1, 2

## R_0603_20
designator R?, comment 604k
MPN: RC0603FR-071KL; MF: Yageo; Value: 604k; Supplier 1: Mouser; Supplier Part Number 1: 603-RC0603FR-071KL
footprint RESC1608X06N (Chip Resistor, 2-Leads, Body 1,60x0,80mm, IPC Medium Density)
pins: 1, 2

## R_0603_21
designator R?, comment 52k3
MPN: RC0603FR-071KL; MF: Yageo; Value: 52k3; Supplier 1: Mouser; Supplier Part Number 1: 603-RC0603FR-071KL
footprint RESC1608X06N (Chip Resistor, 2-Leads, Body 1,60x0,80mm, IPC Medium Density)
pins: 1, 2

## R_0603_22
designator R?, comment 22k
Value: 22k; MF: *; MPN: *; Supplier 1: *; Supplier Part Number 1: *
footprint RESC1608X06N (Chip Resistor, 2-Leads, Body 1,60x0,80mm, IPC Medium Density)
pins: 1, 2

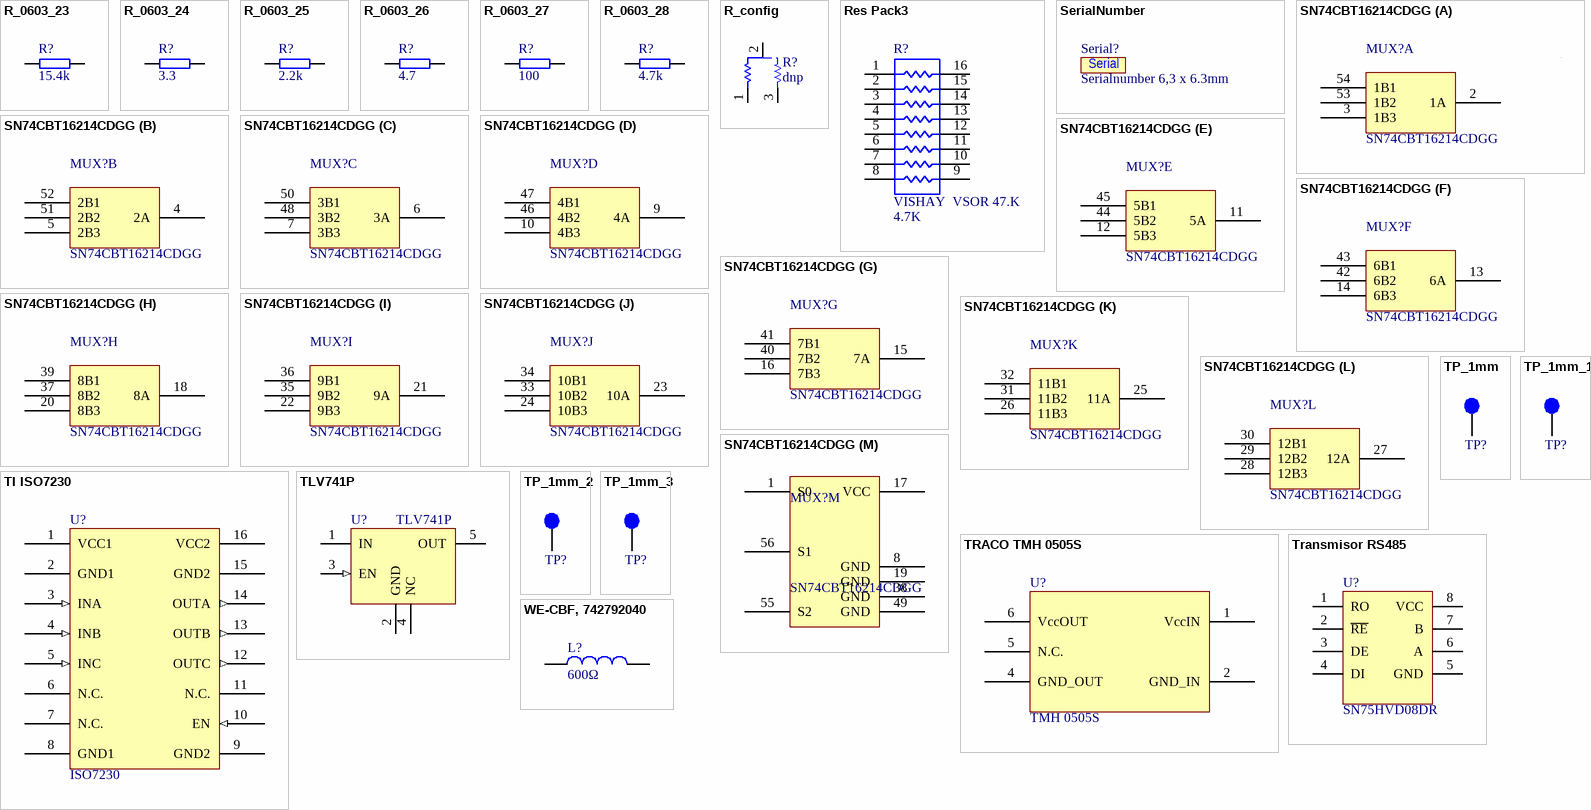
[diagram p2: symbols R_0603_23 to WE-CBF, 742792040]

## R_0603_23
designator R?, comment 15.4k
MPN: CRCW06030000Z0EAC; MF: Vishay; Value: 15.4k; Supplier 1: Mouser; Supplier Part Number 1: 71-CRCW06030000Z0EAC
footprint RESC1608X06N (Chip Resistor, 2-Leads, Body 1,60x0,80mm, IPC Medium Density)
pins: 1, 2

## R_0603_24
designator R?, comment 3.3
MPN: CRCW06030000Z0EAC; MF: Vishay; Value: 3.3; Supplier 1: Mouser; Supplier Part Number 1: 71-CRCW06030000Z0EAC
footprint RESC1608X06N (Chip Resistor, 2-Leads, Body 1,60x0,80mm, IPC Medium Density)
pins: 1, 2

## R_0603_25
designator R?, comment 2.2k
MPN: CRCW06030000Z0EAC; MF: Vishay; Value: 2.2k; Supplier 1: Mouser; Supplier Part Number 1: 71-CRCW06030000Z0EAC
footprint RESC1608X06N (Chip Resistor, 2-Leads, Body 1,60x0,80mm, IPC Medium Density)
pins: 1, 2

## R_0603_26
designator R?, comment 4.7
MF: Vishay; Value: 4.7; Supplier 1: Mouser
footprint RESC1608X06N (Chip Resistor, 2-Leads, Body 1,60x0,80mm, IPC Medium Density)
pins: 1, 2

## R_0603_27
designator R?, comment 100
Value: 100; MF: *; MPN: *; Supplier 1: *; Supplier Part Number 1: *
footprint RESC1608X06N (Chip Resistor, 2-Leads, Body 1,60x0,80mm, IPC Medium Density)
pins: 1, 2

## R_0603_28
designator R?, comment 4.7k
Value: 4.7k; MF: *; MPN: *; Supplier 1: *; Supplier Part Number 1: *
footprint RESC1608X06N (Chip Resistor, 2-Leads, Body 1,60x0,80mm, IPC Medium Density)
pins: 1, 2

## R_config
designator R?, comment dnp
Solder 0603 resistor/jumper between pads 1 and 2 for standard function. Solter resistor between pads 2 and 3 for alternative function; MPN: MCWR06X1002FTL; Value: 0R; MF: Multicomp; Voltage: 50V; Power: 100mW; Tolerance: 1%; Created: 2018_09_04_AGeiger; Package: 0603; Supplier Part Number 1: 2447230; Supplier 1: Farnell
footprint 0603_Config (0603 3-Pin Config Footprint)
pins: 1, 2, 3

## Res Pack3
designator R?, comment VISHAY  VSOR 47.K  value 4.7K
Isolated Resistor Network; Published: 24-Mar-1999; LatestRevisionDate: 29-May-2009; LatestRevisionNote: IPC-7351 Footprint Added.; PackageReference: SO-16; Publisher: Altium Limited; PackageDescription: 16-Pin Small Outline Integrated Circuit 1.27 mm Pitch; Code_JEDEC: MS-012-AC; Code_IPC: SOIC127P600-16
footprint SO-16_N (SOIC, 16-Leads, Body 9.9x3.9mm, Pitch 1.27mm, IPC Medium Density)
footprint SO-16_L (SOIC, 16-Leads, Body 9.9x3.9mm, Pitch 1.27mm, IPC High Density)
footprint SO-16_M (SOIC, 16-Leads, Body 9.9x3.9mm, Pitch 1.27mm, IPC Low Density)
simulation model respack_8 (Spice Subcircuit)
pins: 1, 2, 3, 4, 5, 6, 7, 8, 9, 10, 11, 12, 13, 14, 15, 16

## SerialNumber
designator Serial?, comment Serialnumber 6,3 x 6.3mm  (no BOM)
Created: 2018_09_18_AGeiger; Value: Serialnumber 6,3 x 6.3mm
footprint Serial_6.3x6.3mm
text: Serial

## SN74CBT16214CDGG
designator MUX?
Multiplexer/Demultiplexer Bus Switch 1-Element CMOS 36-IN 56-Pin TSSOP Tube; Manufacturer: Texas Instruments; Supplier 1: Arrow Electronics; Manufacturer Part Number: SN74CBT16214CDGG; RoHS: Yes; Case/Package: TSSOP; RoHS Compliant: Yes; Supplier Part Number 1: SN74CBT16214CDGG
footprint TSSOP50P810X120-56N (TSSOP, 56-Leads, Body 14,00x6,10mm, Pitch 0,50mm, IPC Medium Density)
part A pins: 2 1A, 3 1B3, 53 1B2, 54 1B1
part B pins: 4 2A, 5 2B3, 51 2B2, 52 2B1
part C pins: 6 3A, 7 3B3, 48 3B2, 50 3B1
part D pins: 9 4A, 10 4B3, 46 4B2, 47 4B1
part E pins: 11 5A, 12 5B3, 44 5B2, 45 5B1
part F pins: 13 6A, 14 6B3, 42 6B2, 43 6B1
part G pins: 15 7A, 16 7B3, 40 7B2, 41 7B1
part H pins: 18 8A, 20 8B3, 37 8B2, 39 8B1
part I pins: 21 9A, 22 9B3, 35 9B2, 36 9B1
part J pins: 23 10A, 24 10B3, 33 10B2, 34 10B1
part K pins: 25 11A, 26 11B3, 31 11B2, 32 11B1
part L pins: 27 12A, 28 12B3, 29 12B2, 30 12B1
part M pins: 1 S0, 8 GND, 17 VCC, 19 GND, 38 GND, 49 GND, 55 S2, 56 S1

## TI ISO7230
designator U?, comment ISO7230
High-Speed, Triple-Channel Digital Isolator; Supplier 1: Mouser; Supplier Part Number 1: 595-ISO7230CDWR
footprint SOIC-16_wide-body (SOIC, 16-Leads, Body 10.5x7.6mm, Pitch 1.27mm, IPC Low Density)
pins: 1 VCC1 "Source Level 1", 2 GND1 "Ground Level 1", 3 INA (in) "Input Ch1", 4 INB (in) "Input Ch2", 5 INC (in) "Input Ch3", 6 N.C. "Not connected", 7 N.C. "Not connected", 8 GND1 "Ground Level 1", 9 GND2 "Ground Level 2", 10 EN (in) "Enable Ch1-3", 11 N.C. "Not connected", 12 OUTC (out) "Output Ch3", 13 OUTB (out) "Output Ch2", 14 OUTA (out) "Output Ch1", 15 GND2 "Ground Level 2", 16 VCC2 "Source Level 2"

## TLV741P
designator U?
150mA, 2.5V LDO; MPN: TLV74125PDBVR; MF: Texas Instruments; Supplier 1: Mouser; Supplier 2: Digi-Key; Supplier Part Number 1: 595-TLV74125PDBVR; Supplier Part Number 2: 296-49999-1-ND; Package: SOT-23-5
footprint SOT95P250X110-5N (SOT23, 5-Leads, Body 2,92x2,50mm, Pitch 0,95mm, IPC Medium Density)
pins: 1 IN (power), 2 GND (power), 3 EN (in), 4 NC, 5 OUT (power)

## TP_1mm
designator TP?, comment VCC  (value not drawn)
Testpoint 1mm; Created: 2018_06_25_AGeiger; Value: Testpoint 1mm
footprint TP_1mm
pins: 1

## TP_1mm_1
designator TP?, comment VREF  (value not drawn)
Testpoint 1mm; Created: 2018_06_25_AGeiger; Value: Testpoint 1mm
footprint TP_1mm
pins: 1

## TP_1mm_2
designator TP?, comment OVCC  (value not drawn)
Testpoint 1mm; Created: 2018_06_25_AGeiger; Value: Testpoint 1mm
footprint TP_1mm
pins: 1

## TP_1mm_3
designator TP?, comment VIN  (value not drawn)
Testpoint 1mm; Created: 2018_06_25_AGeiger; Value: Testpoint 1mm
footprint TP_1mm
pins: 1

## TRACO TMH 0505S
designator U?, comment TMH 0505S
5V/5V DC-DC Isolation Converter
footprint SIL-6(7) (SIP; 7 Leads (1 Absent); Body 19.5 x 6 mm (LxW typ); Pitch 2.54 mm)
pins: 1 VccIN, 2 GND_IN, 4 GND_OUT, 5 N.C., 6 VccOUT

## Transmisor RS485
designator U?, comment SN75HVD08DR
IC TRANSCEIVER HALF 1/1 8SOIC; MF: Texas Instruments; Supplier Part Number 2: 296-37893-1-ND; MPN: SN75HVD08DR; Supplier Part Number 1: 595-SN75HVD08DR; Package: SOIC-8; Supplier 1: Mouser; Supplier 2: Digi-Key
footprint SOIC8_N (SOIC, 8-Leads, Body 4.9x3.9mm, Pitch 1.27mm, IPC Medium Density)
pins: 1 RO, 2 ~{RE}, 3 DE, 4 DI, 5 GND, 6 A, 7 B, 8 VCC

## WE-CBF, 742792040
designator L?, comment 600Ω
WE-CBF SMD EMI Suppression Ferrite Bead, 0805, 600Ω; MPN: 742792040; MF: Wurth Elektronik; Type: High Current; PublishedDate: Aug 2016; ComponentLink1Description: Manufacturer; ComponentLink1URL: http://www.we-online.de; ComponentLink2Description: Datasheet; ComponentLink2URL: http://katalog.we-online.de/pbs/datasheet/742792040.pdf; Value: 600Ω; Size: 0805; Supplier 1: Farnell; Supplier 2: Mouser; Supplier 3: Digi-Key; Supplier Part Number 1: 2761567; Supplier Part Number 2: 710-742792040; Supplier Part Number 3: 732-1620-1-ND
footprint WE-CBF_0805_High Current (SMD EMI Suppression Ferrite  Bead, body 2.0mmx1.2mm)
pins: 1, 2